# Altium footprint library 28PinArduino.PcbLib: 26 footprints (part 2 of 2)
Each footprint in its own frame and in the unit in brackets; x right, y up, seen from the top. Pads: shape width x height; smd on the part's side, far side on the other; paste and mask are expansions set on the pad; w line width, h text height; cw(c..) or ccw(c..) is an arc to the next point about the centre after c.
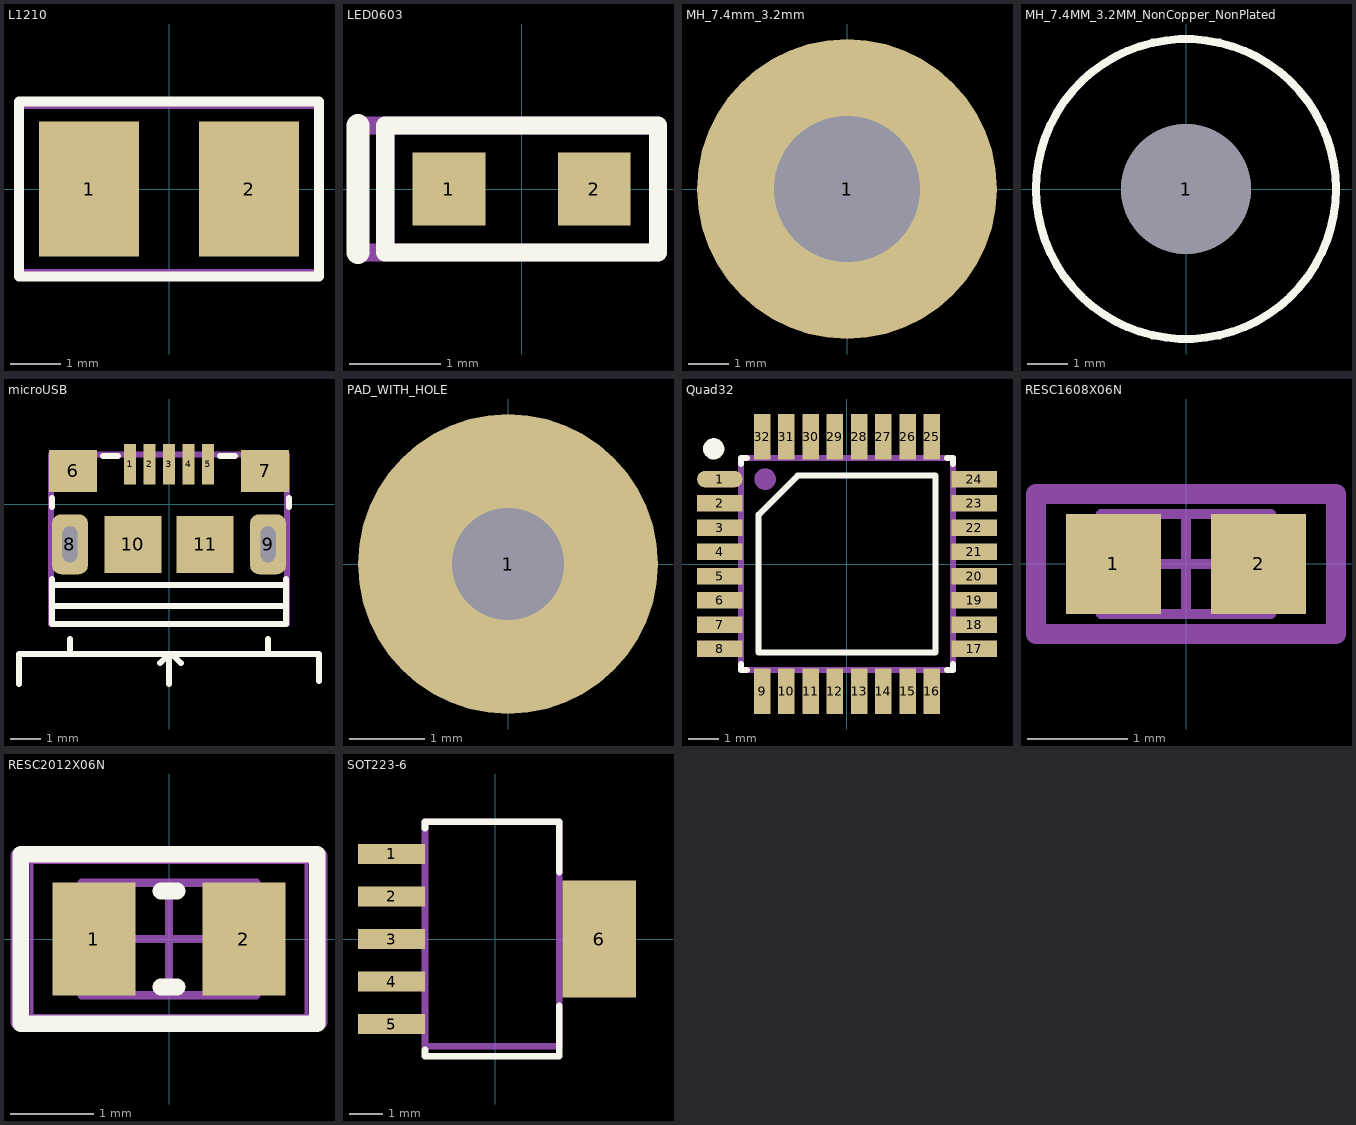
[diagram p1: the footprints below, top view; thin cyan lines are the x and y axes]

## L1210 [mm]
pads (2):
  rect 2x2.7 smd: 1(-1.6,0) 2(1.6,0)
Top Overlay:
  lines w0.2: -3,-1.75 -3,1.75 3,1.75 3,-1.75 -3,-1.75
Mechanical 29:
  lines w0.2: -3,-1.7 3,-1.7 3,1.7 -3,1.7 -3,-1.7
  text "'.Designator'" at 0,0 h0.5
3D body "L1210R2R2MDWIT.step": height 2.7, standoff 0, extent -1.7,-1.3 1.7,1.4

## LED0603 [mm]
pads (2):
  rect 0.8x0.8 smd: 1(-0.8,0) 2(0.8,0)
Top Overlay:
  lines w0.2: -1.5,-0.7 -1.5,0.7 1.5,0.7 1.5,-0.7 -1.5,-0.7
  lines w0.254: -1.8,-0.7 -1.8,0.7
Mechanical 29:
  lines w0.2: -1.5,-0.7 -1.5,0.7 ; -1.8,-0.7 1.5,-0.7 1.5,0.7 -1.8,0.7 -1.8,-0.7
  text "'.Designator'" at -1.1,-0.1 h0.5
3D body "User Library-LED SMD 0603 super red.STEP": height 0.65, standoff 0, extent -0.85,-0.4 0.85,0.4
3D body: height 0.66, standoff 0.5, extent -0.2,-0.2 0.2,0.2

## MH_7.4mm_3.2mm [mm] "Mounting Hole 7.4mm Copper diameter 3.2 mm drill Plated"
pads (1):
  round 7.4 hole 3.6: 1(0,0)

## MH_7.4MM_3.2MM_NonCopper_NonPlated [mm]
pads (1):
  round 3.2 hole 3.2 unplated: 1(0,0)
Top Overlay:
  circle w0.2: c0,0 r3.7

## microUSB [mm]
pads (11):
  rect 0.4x1.35 smd mask+0.05: 1(-1.3,1.338) 2(-0.65,1.338) 3(0,1.338) 4(0.65,1.338) 5(1.3,1.338)
  rect 1.6x1.4 smd: 6(-3.2,1.112) 7(3.2,1.112)
  rrect50% 1.2x2 hole 0.5 slot 1.2 at 90 deg: 8(-3.3,-1.338) 9(3.3,-1.338)
  rect 1.9x1.9 smd: 10(-1.2,-1.338) 11(1.2,-1.338)
Top Overlay:
  lines w0.2: -5,-6 -5,-5 5,-5 5,-5.9 ; -3.9,-3.4 3.9,-3.4 ; -3.9,-2.7 3.9,-2.7 ; -3.9,-2.5 -3.9,-4 3.9,-4 3.9,-2.5 ; -3.9,-0.1 -3.9,0.2 ; -3.3,-5 -3.3,-4.5 ; -2.2,1.6 -1.7,1.6 ; -0.3,-5.3 0,-5 ; 0,-6 0,-5 ; 0.4,-5.3 0.1,-5 ; 1.7,1.6 2.2,1.6 ; 3.3,-5 3.3,-4.5 ; 4,-0.1 4,0.2 ; 0,-5 0.1,-5 ; 0,-5 0.1,-5
Mechanical 29:
  lines w0.2: -3.928,-4 -3.928,1.661 3.928,1.661 3.928,-4 -3.928,-4
  text "'.Designator'" at 0,0 h0.5
3D body "10118193-0001lfc.stp": height 2.88, standoff -0.72, extent -3.928,-4 3.928,1.661

## PAD_WITH_HOLE [mm] "4mmx1.5mm"
pads (1):
  round 4 hole 1.5: 1(0,0)

## Quad32 [mm]
pads (32):
  oval 1.5x0.55 smd mask+0.06: 1(-4.2,2.8)
  rect 1.5x0.55 smd mask+0.06: 2(-4.2,2) 3(-4.2,1.2) 4(-4.2,0.4) 5(-4.2,-0.4) 6(-4.2,-1.2) 7(-4.2,-2) 8(-4.2,-2.8) 17(4.2,-2.8) 18(4.2,-2) 19(4.2,-1.2) 20(4.2,-0.4) 21(4.2,0.4) 22(4.2,1.2) 23(4.2,2) 24(4.2,2.8)
  rect 0.55x1.5 smd mask+0.06: 9(-2.8,-4.2) 10(-2,-4.2) 11(-1.2,-4.2) 12(-0.4,-4.2) 13(0.4,-4.2) 14(1.2,-4.2) 15(2,-4.2) 16(2.8,-4.2) 25(2.8,4.2) 26(2,4.2) 27(1.2,4.2) 28(0.4,4.2) 29(-0.4,4.2) 30(-1.2,4.2) 31(-2,4.2) 32(-2.8,4.2)
Top Overlay:
  circle w0.5: c-4.4,3.8 r0.1
  lines w0.2: -3.5,-3.3 -3.5,-3.5 -3.3,-3.5 ; -3.5,3.3 -3.5,3.5 ; 3.3,-3.5 3.5,-3.5 3.5,-3.3 ; 3.3,3.5 3.5,3.5 3.5,3.3 ; -3.5,3.5 -3.3,3.5 -3.5,3.5 ; -2.915,-2.915 2.915,-2.915 2.915,2.915 -1.63,2.915 -2.915,1.63 -2.915,-2.915
Mechanical 29:
  circle w0.508: c-2.7,2.8 r0.1
  lines w0.2: -3.5,-3.3 -3.5,-3.5 ; -3.5,-3.5 3.5,-3.5 3.5,3.3 3.5,3.5 -3.4,3.5 -3.5,3.4 -3.5,-3.5
  text "'.Designator'" at -1.7,-1.1 h3
3D body "User Library-tqfp32.STEP": height 1.2, standoff 0, extent -4.6,-4.624 4.599,4.575

## RESC1608X06N [mm] "Chip Resistor, 2-Leads, Body 1.60x0.85mm, IPC Medium Density"
height 0.56
pads (2):
  rect 0.95x1 smd: 1(-0.725,0) 2(0.725,0)
Mechanical 13:
  lines w0.1: -0.85,-0.5 -0.85,0.5 0.85,0.5 0.85,-0.5 -0.85,-0.5
Mechanical 15:
  lines w0.05: -1.45,-0.75 -1.45,0.75 1.45,0.75 1.45,-0.75 -1.45,-0.75
  lines w0.1: -0.5,0 0.5,0 ; 0,-0.5 0,0.5
Mechanical 29:
  lines w0.2: -1.5,-0.7 -1.5,0.7 1.5,0.7 1.5,-0.7 -1.5,-0.7
  text "'.Designator'" at 0,0 h0.5
3D body "RESC1608X06N.step": height 0.56, standoff 0, extent -0.85,-0.5 0.85,0.5

## RESC2012X06N [mm] "Chip Resistor, 2-Leads, Body 2.00x1.25mm, IPC Medium Density"
height 0.6
pads (2):
  rect 1x1.35 smd: 1(-0.9,0) 2(0.9,0)
Top Overlay:
  lines w0.198: -1.778,-1.016 -1.778,1.016 1.778,1.016 1.778,-1.016 -1.778,-1.016
  lines w0.2: -0.1,-0.575 0.1,-0.575 ; -0.1,0.575 0.1,0.575
Mechanical 13:
  lines w0.1: -1.05,-0.675 1.05,-0.675 1.05,0.675 -1.05,0.675 -1.05,-0.675
Mechanical 15:
  lines w0.05: -1.65,-0.95 1.65,-0.95 1.65,0.95 -1.65,0.95 -1.65,-0.95
  lines w0.1: -0.5,0 0.5,0 ; 0,-0.5 0,0.5
Mechanical 29:
  lines w0.2: -1.8,-1 -1.8,1 1.8,1 1.8,-1 -1.8,-1
  text "'.Designator'" at 0,0 h0.5
3D body "RESC2012X06N.step": height 0.6, standoff 0, extent -1.05,-0.675 1.05,0.675

## SOT223-6 [mm]
pads (6):
  rect 2x0.6 smd: 1(-3.1,2.54) 2(-3.1,1.27) 3(-3.1,0) 4(-3.1,-1.27) 5(-3.1,-2.54)
  rect 2.2x3.5 smd: 6(3.1,0)
Top Overlay:
  lines w0.2: -2.1,-3.3 -2.1,-3.5 1.9,-3.5 1.9,-2 ; -2.1,3.3 -2.1,3.5 1.9,3.5 1.9,2
Mechanical 29:
  lines w0.2: -2.1,3.5 -2.1,-3.2 1.825,-3.2 1.9,-3.2 1.9,3.5 -2,3.5
  text "'.Designator'" at 0,0 h0.5
3D body "User Library-TPS73701DCQ.STEP": height 1.8, standoff 0, extent -3.63,-3.275 3.63,3.275